# Altium schematic symbol library 5-146252-1.SchLib: 1 symbol
Pins are listed as number, name and electrical type; pins without a type are passive.

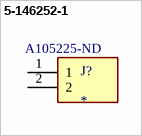
[diagram p0: symbol 5-146252-1]

## 5-146252-1
designator J?  Supplier Part Number 1: A105225-ND
2 Pin Jumper Male Pins and Cap; MP: 5-146252-1; Package: None; Price: None; Value: *; Availability: Unavailable; Supplier 1: Digi-Key; ComponentLink1Description: JumperPins; ComponentLink1URL: https://www.digikey.ca/en/products/detail/te-connectivity-amp-connectors/5-146252-1/2275768#; ComponentLink2Description: JumperCap; ComponentLink2URL: https://www.digikey.ca/en/products/detail/samtec-inc/SNT-100-BK-G/1756763
footprint TE_5-146252-1
pins: 1, 2